# EAGLE library part 6.35MMJACK (library ds8)
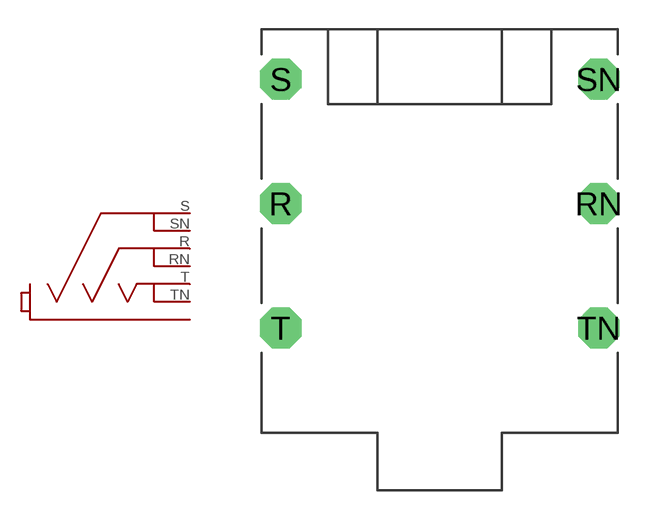
[diagram p4: symbol with the pads of NMJ6HCD3; footprint NMJ6HCD3]

Designator prefix -

## 6.35MMJACK  [NMJ6HCD3]
R  R
RN  RN
S  S
SN  SN
T  T
TN  TN

## Footprint NMJ6HCD3 (pad centres in mm)
drill 1.4 octagon: R -8.115,-8.9; RN 8.115,-8.9; S -8.115,-2.55; SN 8.115,-2.55; T -8.115,-15.25; TN 8.115,-15.25